# Altium footprint library RFX2401C.PcbLib: 1 footprints
Each footprint in its own frame and in the unit in brackets; x right, y up, seen from the top. Pads: shape width x height; smd on the part's side, far side on the other; paste and mask are expansions set on the pad; w line width, h text height; cw(c..) or ccw(c..) is an arc to the next point about the centre after c.
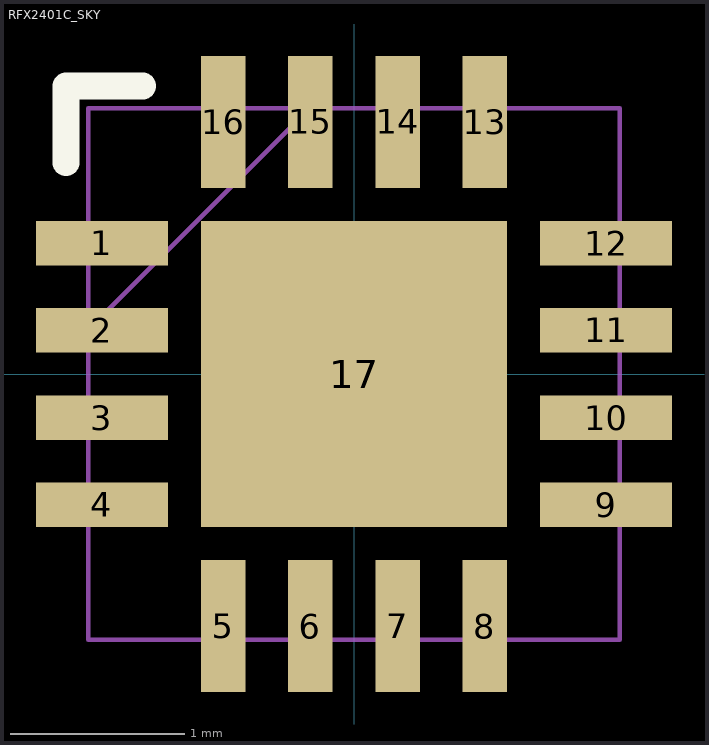
[diagram p0: the footprint, top view; thin cyan lines are the x and y axes]

## RFX2401C_SKY [mm]
pads (17):
  rect 0.757x0.255 smd paste+0 mask+0: 1(-1.445,0.75) 2(-1.445,0.25) 3(-1.445,-0.25) 4(-1.445,-0.75) 9(1.445,-0.75) 10(1.445,-0.25) 11(1.445,0.25) 12(1.445,0.75)
  rect 0.255x0.757 smd paste+0 mask+0: 5(-0.75,-1.445) 6(-0.25,-1.445) 7(0.25,-1.445) 8(0.75,-1.445) 13(0.75,1.445) 14(0.25,1.445) 15(-0.25,1.445) 16(-0.75,1.445)
  rect 1.753x1.753 smd paste+0 mask+0: 17(0,0)
Top Overlay:
  lines w0.152: -1.651,1.21 -1.651,1.651 -1.21,1.651
Mechanical 13:
  lines w0.025: -1.524,0.254 -0.254,1.524 ; -1.524,-1.524 1.524,-1.524 1.524,1.524 -1.524,1.524 -1.524,-1.524 ; -1.524,-0.902 -1.524,-0.598 -1.524,-0.902 ; -1.524,-0.402 -1.524,-0.098 -1.524,-0.402 ; -1.524,0.098 -1.524,0.402 -1.524,0.098 ; -1.524,0.598 -1.524,0.902 -1.524,0.598 ; -0.902,-1.524 -0.598,-1.524 -0.902,-1.524 ; -0.902,1.524 -0.598,1.524 -0.902,1.524 ; -0.402,-1.524 -0.098,-1.524 -0.402,-1.524 ; -0.402,1.524 -0.098,1.524 -0.402,1.524 ; 0.098,-1.524 0.402,-1.524 0.098,-1.524 ; 0.098,1.524 0.402,1.524 0.098,1.524 ; 0.598,-1.524 0.902,-1.524 0.598,-1.524 ; 0.598,1.524 0.902,1.524 0.598,1.524 ; 1.524,-0.902 1.524,-0.598 1.524,-0.902 ; 1.524,-0.402 1.524,-0.098 1.524,-0.402 ; 1.524,0.098 1.524,0.402 1.524,0.098 ; 1.524,0.598 1.524,0.902 1.524,0.598
  text "*" at -1.384,0.365 h1.27
3D body "RFX2401C_SKY.step": height 0.61, standoff 0, extent -1.524,-1.524 1.524,1.524